# Altium schematic symbol library UMK107ABJ105KAHT.SchLib: 1 symbol
Pins are listed as number, name and electrical type; pins without a type are passive.

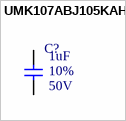
[diagram p0: symbol UMK107ABJ105KAHT]

## UMK107ABJ105KAHT
designator C?  Rated Voltage: 50V  Tolerance: 10%  Capacitence: 1uF  (hidden comment: UMK107ABJ105KAHT)
CAP CER 1UF 50V X5R 0603; MFR: Taiyo Yuden; PN: UMK107ABJ105KAHT; ComponentLink1Description: Datasheet; ComponentLink1URL: www.google.com; Temperature Coefficient: X5R; Package: X5R; Footprint: C0603; Supplier 1: Digi-Key; Supplier Part Number 1: 587-3501-1-ND
footprint C0603 (Generic C0603 Footprint)
pins: 1, 2